# Altium schematic symbol library 2.54_Connector_x6_male_25mm.SchLib: 1 symbol
Pins are listed as number, name and electrical type; pins without a type are passive.

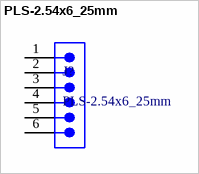
[diagram p0: symbol PLS-2.54x6_25mm]

## PLS-2.54x6_25mm
designator J?
footprint PLS2.54x25mm
footprint Model Name (Footprint not found)
pins: 1, 2, 3, 4, 5, 6